# Altium schematic symbol library Schlib Semiconductores.SchLib: 21 symbols
Pins are listed as number, name and electrical type; pins without a type are passive.

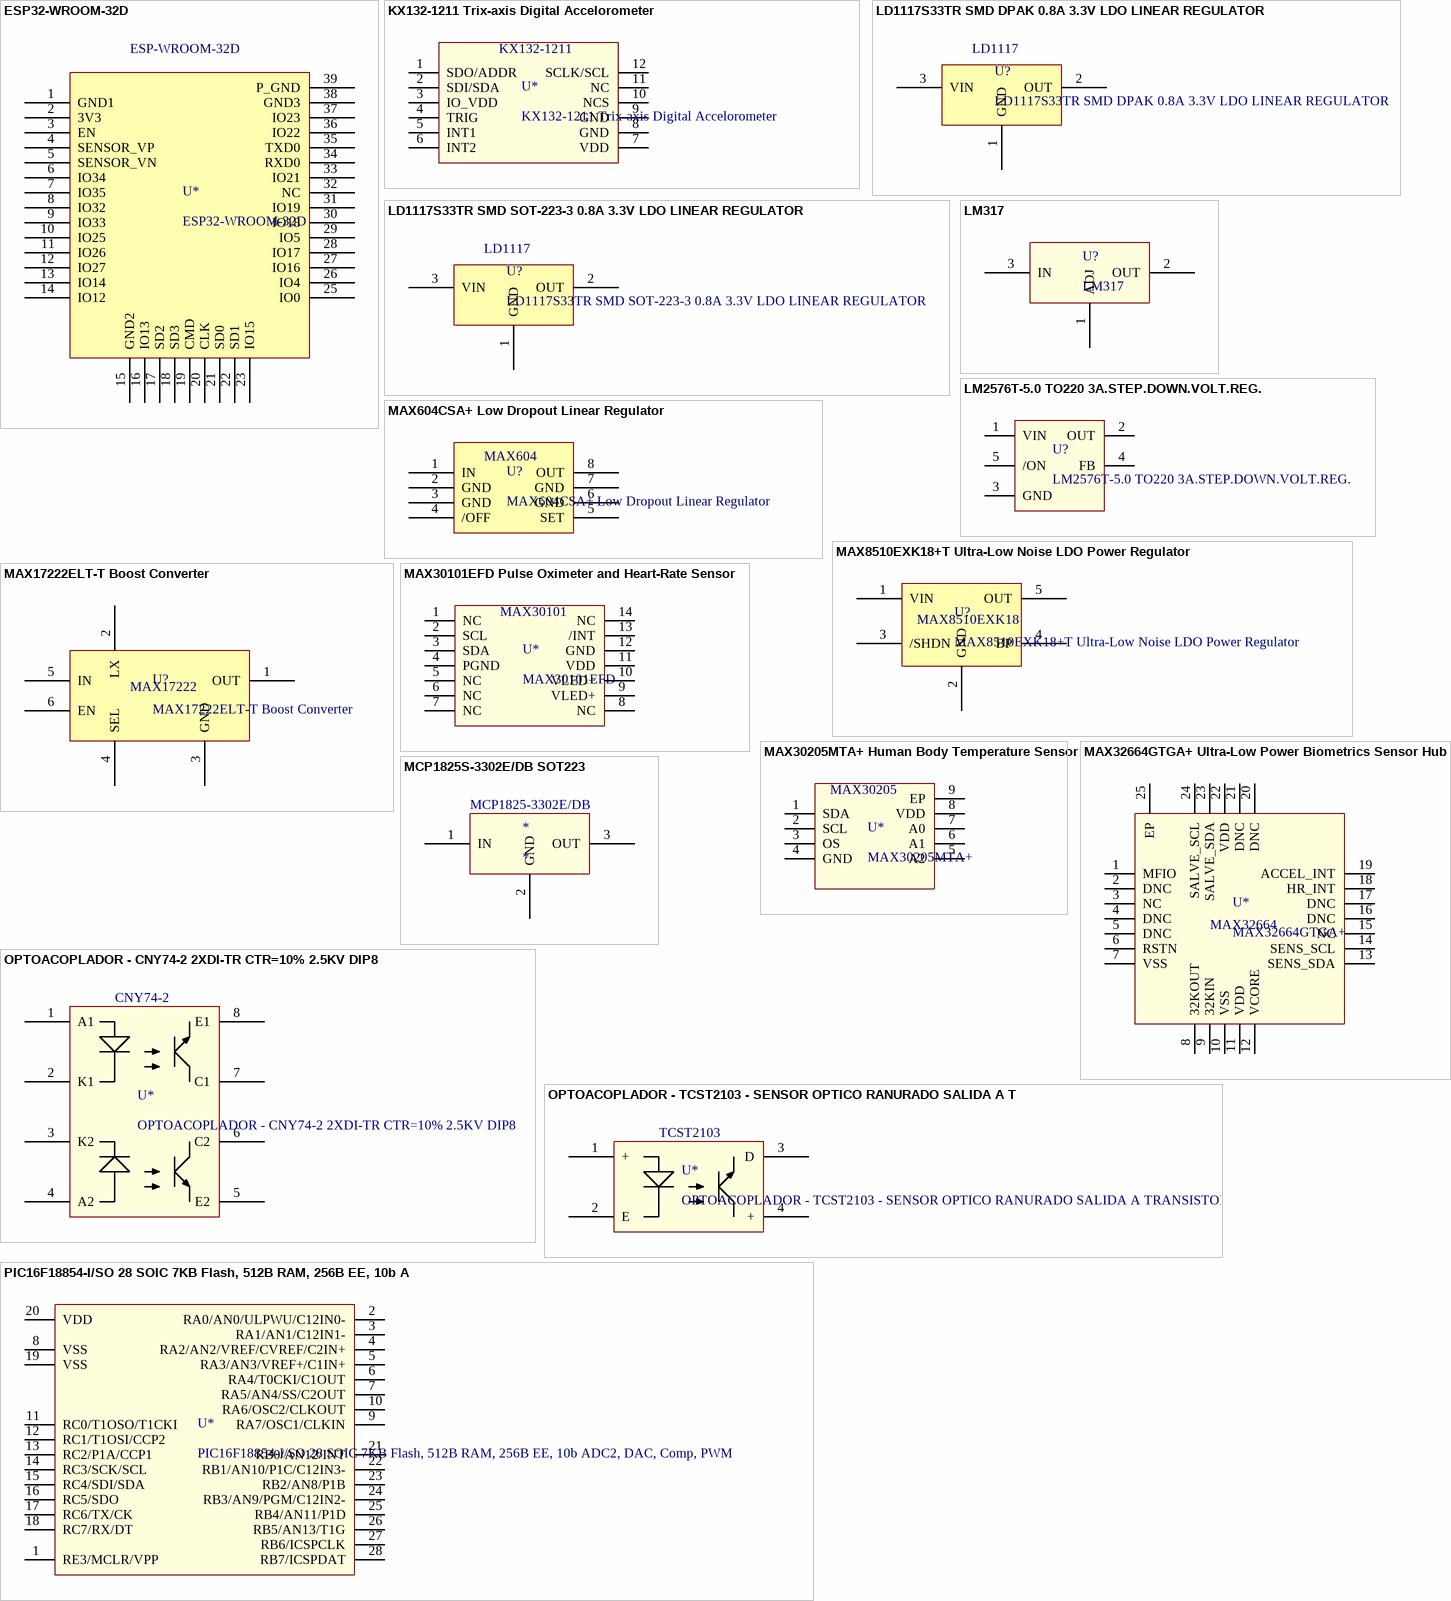
[diagram p0: symbols ESP32-WROOM-32D to PIC16F18854-I/SO 28 SOIC 7KB Flash, 512B RAM, 256B EE, 10b ADC2, DAC, Comp, PWM]

## ESP32-WROOM-32D
designator U*
COD. ELEMON: RF9301435
footprint ESP32-WROOM-32D
pins: 1 GND1, 2 3V3, 3 EN, 4 SENSOR_VP, 5 SENSOR_VN, 6 IO34, 7 IO35, 8 IO32, 9 IO33, 10 IO25, 11 IO26, 12 IO27, 13 IO14, 14 IO12, 15 GND2, 16 IO13, 17 SD2, 18 SD3, 19 CMD, 20 CLK, 21 SD0, 22 SD1, 23 IO15, 25 IO0, 26 IO4, 27 IO16, 28 IO17, 29 IO5, 30 IO18, 31 IO19, 32 NC, 33 IO21, 34 RXD0, 35 TXD0, 36 IO22, 37 IO23, 38 GND3, 39 P_GND
text: ESP-WROOM-32D

## KX132-1211 Trix-axis Digital Accelorometer
designator U*
footprint KX132-1211
pins: 1 SDO/ADDR, 2 SDI/SDA, 3 IO_VDD, 4 TRIG, 5 INT1, 6 INT2, 7 VDD, 8 GND, 9 GND, 10 NCS, 11 NC, 12 SCLK/SCL
text: KX132-1211

## LD1117S33TR SMD DPAK 0.8A 3.3V LDO LINEAR REGULATOR
designator U?
footprint DPAK
pins: 1 GND, 2 OUT, 3 VIN
text: LD1117

## LD1117S33TR SMD SOT-223-3 0.8A 3.3V LDO LINEAR REGULATOR
designator U?
footprint SOT223-3
pins: 1 GND, 2 OUT, 3 VIN
text: LD1117

## LM317
designator U?
Voltage Regulator -  Adjustable Output, Positive  1.5 A; ComponentLink2Description: Datasheet; ComponentLink2URL: https://www.onsemi.com/pdf/datasheet/lm317-d.pdf
footprint LM317 (TO220 - Voltage Regulator -  Adjustable Output, Positive  1.5 A)
pins: 1 ADJ, 2 OUT, 3 IN

## LM2576T-5.0 TO220 3A.STEP.DOWN.VOLT.REG.
designator U?
COD. ELEMON: CI2707258H; COD. FV: CE.SEM.0002
footprint LM2576T-5.0 (LM2576T-5.0 TO220 3A.STEP.DOWN.VOLT.REG.)
pins: 1 VIN, 2 OUT, 3 GND, 4 FB, 5 /ON

## MAX604CSA+ Low Dropout Linear Regulator
designator U?
footprint MAX604CSA (MAX604CSA+ Low Dropout Linear Regulator)
pins: 1 IN, 2 GND, 3 GND, 4 /OFF, 5 SET, 6 GND, 7 GND, 8 OUT
text: MAX604

## MAX8510EXK18+T Ultra-Low Noise LDO Power Regulator
designator U?
footprint MAX8510EXK18 (MAX8510EXK18 Ultra Low Noise Linear Regulator)
pins: 1 VIN, 2 GND, 3 /SHDN, 4 BP, 5 OUT
text: MAX8510EXK18

## MAX17222ELT-T Boost Converter
designator U?
footprint MAX17222ELT+T
pins: 1 OUT, 2 LX, 3 GND, 4 SEL, 5 IN, 6 EN
text: MAX17222

## MAX30101EFD Pulse Oximeter and Heart-Rate Sensor
designator U*, comment MAX30101EFD
MAX30101EFD Pulse Oximeter and Heart-Rate Sensor
footprint MAX30101
pins: 1 NC, 2 SCL, 3 SDA, 4 PGND, 5 NC, 6 NC, 7 NC, 8 NC, 9 VLED+, 10 VLED+, 11 VDD, 12 GND, 13 /INT, 14 NC
text: MAX30101

## MAX30205MTA+ Human Body Temperature Sensor
designator U*, comment MAX30205MTA+
MAX30205MTA+ Human Body Temperature Sensor
footprint MAX30205MTA
pins: 1 SDA, 2 SCL, 3 OS, 4 GND, 5 A2, 6 A1, 7 A0, 8 VDD, 9 EP
text: MAX30205

## MAX32664GTGA+ Ultra-Low Power Biometrics Sensor Hub
designator U*, comment MAX32664GTGA+
MAX32664GTGA+ Ultra-Low Power Biometrics Sensor Hub
footprint MAX32664GTGA+
pins: 1 MFIO, 2 DNC, 3 NC, 4 DNC, 5 DNC, 6 RSTN, 7 VSS, 8 32KOUT, 9 32KIN, 10 VSS, 11 VDD, 12 VCORE, 13 SENS_SDA, 14 SENS_SCL, 15 NC, 16 DNC, 17 DNC, 18 HR_INT, 19 ACCEL_INT, 20 DNC, 21 DNC, 22 VDD, 23 SALVE_SDA, 24 SALVE_SCL, 25 EP
text: MAX32664

## MCP1825S-3302E/DB SOT223
designator *
footprint SOT223-3
pins: 1 IN, 2 GND, 3 OUT
text: MCP1825-3302E/DB

## OPTOACOPLADOR - CNY74-2 2XDI-TR CTR=10% 2.5KV DIP8
designator U*
COD. ELEMON: OP1696260
footprint CNY74-2 (OPTOACOPLADOR - CNY74-2)
pins: 1 A1, 2 K1, 3 K2, 4 A2, 5 E2, 6 C2, 7 C1, 8 E1
text: CNY74-2

## OPTOACOPLADOR - TCST2103 - SENSOR OPTICO RANURADO SALIDA A TRANSISTOR
designator U*
COD. SYC: TCST2103
footprint TCST2103 (OPTOACOPLADOR - TCST2103 - SENSOR OPTICO RANURADO SALIDA A TRANSISTOR)
pins: 1 +, 2 E, 3 D, 4 +

## PIC16F18854-I/SO 28 SOIC 7KB Flash, 512B RAM, 256B EE, 10b ADC2, DAC, Comp, PWM
designator U*
COD. FV: CE.MIC.0003; COD. ELEMON: MI2986745
footprint SOIC-SO28 (PIC16F18854 SOIC, 28-Leads, Body 17.9x7.5mm, Pitch 1.27mm,)
pins: 1 RE3/MCLR/VPP, 2 RA0/AN0/ULPWU/C12IN0-, 3 RA1/AN1/C12IN1-, 4 RA2/AN2/VREF/CVREF/C2IN+, 5 RA3/AN3/VREF+/C1IN+, 6 RA4/T0CKI/C1OUT, 7 RA5/AN4/SS/C2OUT, 8 VSS, 9 RA7/OSC1/CLKIN, 10 RA6/OSC2/CLKOUT, 11 RC0/T1OSO/T1CKI, 12 RC1/T1OSI/CCP2, 13 RC2/P1A/CCP1, 14 RC3/SCK/SCL, 15 RC4/SDI/SDA, 16 RC5/SDO, 17 RC6/TX/CK, 18 RC7/RX/DT, 19 VSS, 20 VDD, 21 RB0/AN12/INT, 22 RB1/AN10/P1C/C12IN3-, 23 RB2/AN8/P1B, 24 RB3/AN9/PGM/C12IN2-, 25 RB4/AN11/P1D, 26 RB5/AN13/T1G, 27 RB6/ICSPCLK, 28 RB7/ICSPDAT

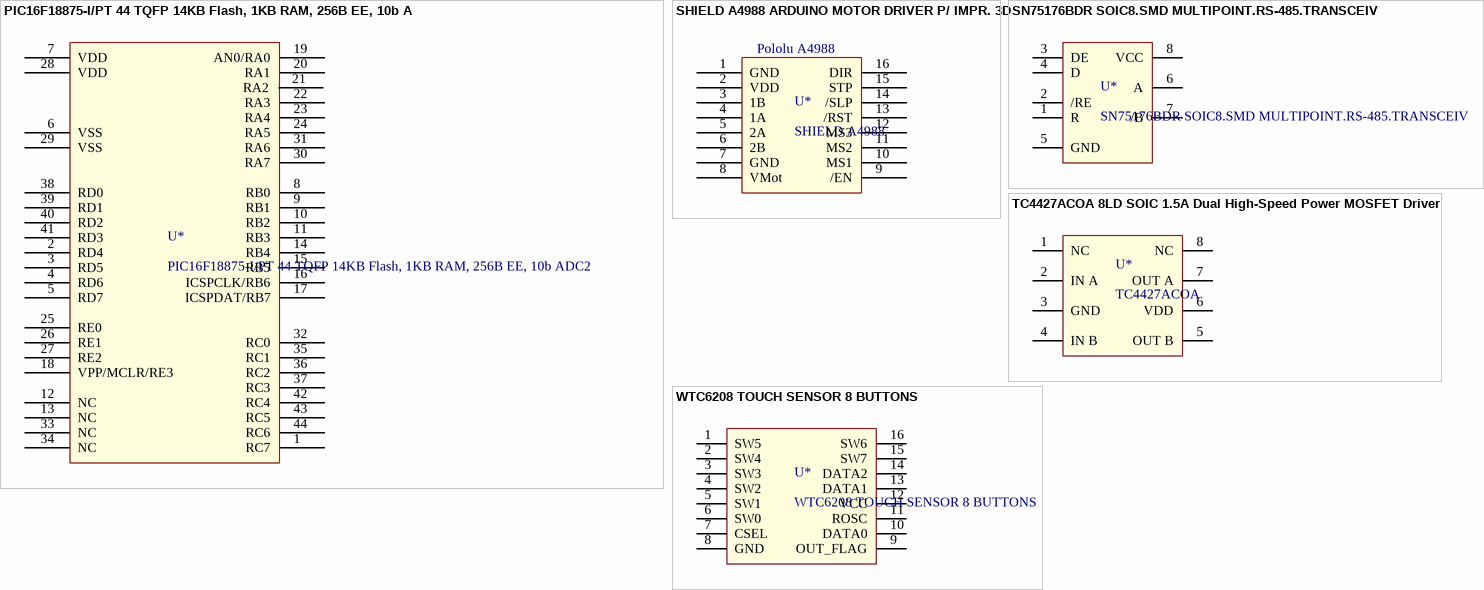
[diagram p1: symbols PIC16F18875-I/PT 44 TQFP 14KB Flash, 1KB RAM, 256B EE, 10b ADC2 to WTC6208 TOUCH SENSOR 8 BUTTONS]

## PIC16F18875-I/PT 44 TQFP 14KB Flash, 1KB RAM, 256B EE, 10b ADC2
designator U*
COD. FV: CE.MIC.0002; COD. ELEMON: MI2986749
footprint 44TQFP - PIC16F18875 (PIC16F18875)
pins: 1 RC7, 2 RD4, 3 RD5, 4 RD6, 5 RD7, 6 VSS, 7 VDD, 8 RB0, 9 RB1, 10 RB2, 11 RB3, 12 NC, 13 NC, 14 RB4, 15 RB5, 16 ICSPCLK/RB6, 17 ICSPDAT/RB7, 18 VPP/MCLR/RE3, 19 AN0/RA0, 20 RA1, 21 RA2, 22 RA3, 23 RA4, 24 RA5, 25 RE0, 26 RE1, 27 RE2, 28 VDD, 29 VSS, 30 RA7, 31 RA6, 32 RC0, 33 NC, 34 NC, 35 RC1, 36 RC2, 37 RC3, 38 RD0, 39 RD1, 40 RD2, 41 RD3, 42 RC4, 43 RC5, 44 RC6

## SHIELD A4988 ARDUINO MOTOR DRIVER P/ IMPR. 3D
designator U*, comment SHIELD A4988
SHIELD A4988 ARDUINO MOTOR DRIVER P/ IMPR. 3D; COD. FV: CE.SEM.0006; COD. ELEMON: AR6973A115
footprint POLOLU A4988 (POLOLU A4988 - STEPPER MOTOR DRIVER)
pins: 1 GND, 2 VDD, 3 1B, 4 1A, 5 2A, 6 2B, 7 GND, 8 VMot, 9 /EN, 10 MS1, 11 MS2, 12 MS3, 13 /RST, 14 /SLP, 15 STP, 16 DIR
text: Pololu A4988

## SN75176BDR SOIC8.SMD MULTIPOINT.RS-485.TRANSCEIV
designator U*
COD. ELEMON: CI2707224; COD. FV: CE.SEM.0003
footprint SN75176AD (SN75176AD - Differential Bus Transceiver)
pins: 1 R, 2 /RE, 3 DE, 4 D, 5 GND, 6 A, 7 /B, 8 VCC

## TC4427ACOA 8LD SOIC 1.5A Dual High-Speed Power MOSFET Drivers
designator U*, comment TC4427ACOA
TC4427ACOA 8LD SOIC 1.5A Dual High-Speed Power MOSFET Drivers; COD. FV: CE.SEM.0005; COD. ELEMON: CI2708051D
footprint TC4427ACOA (TC4427ACOA SOIC Dual High-Speed Power MOSFET Drivers)
pins: 1 NC, 2 IN A, 3 GND, 4 IN B, 5 OUT B, 6 VDD, 7 OUT A, 8 NC

## WTC6208 TOUCH SENSOR 8 BUTTONS
designator U*
COD. FV: CE.SEM.0008
footprint WTC6208 (WTC6208 TOUCH SENSOR 8 BUTTONS)
pins: 1 SW5, 2 SW4, 3 SW3, 4 SW2, 5 SW1, 6 SW0, 7 CSEL, 8 GND, 9 OUT_FLAG, 10 DATA0, 11 ROSC, 12 VCC, 13 DATA1, 14 DATA2, 15 SW7, 16 SW6